# Altium footprint library USB4145-03-0230-C.PcbLib: 1 footprints
Each footprint in its own frame and in the unit in brackets; x right, y up, seen from the top. Pads: shape width x height; smd on the part's side, far side on the other; paste and mask are expansions set on the pad; w line width, h text height; cw(c..) or ccw(c..) is an arc to the next point about the centre after c.
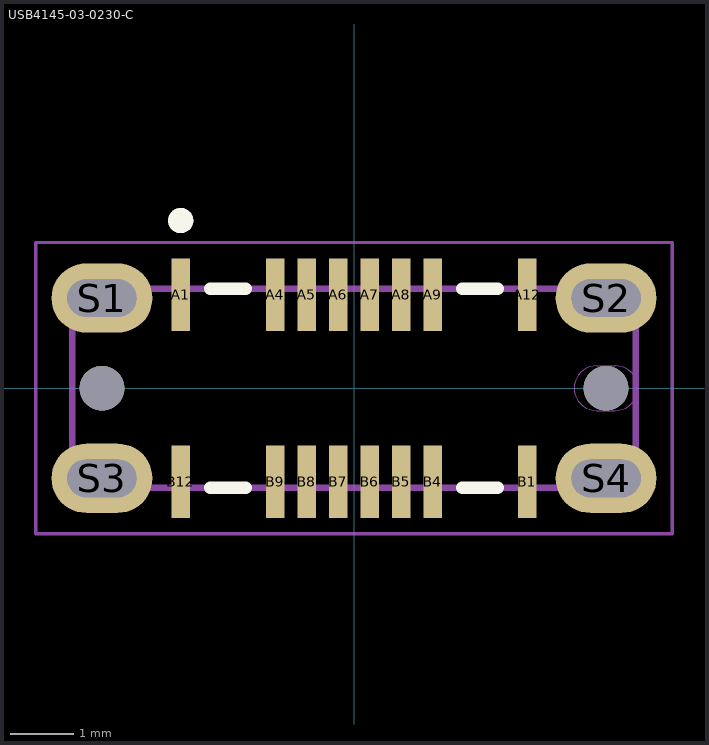
[diagram p0: the footprint, top view; thin cyan lines are the x and y axes]

## USB4145-03-0230-C [mm]
height 7.66
pads (22):
  rect 0.3x1.15 smd: A1(-2.75,1.485) A4(-1.25,1.485) A5(-0.75,1.485) A6(-0.25,1.485) A7(0.25,1.485) A8(0.75,1.485) A9(1.25,1.485) A12(2.75,1.485) B1(2.75,-1.485) B4(1.25,-1.485) B5(0.75,-1.485) B6(0.25,-1.485) B7(-0.25,-1.485) B8(-0.75,-1.485) B9(-1.25,-1.485) B12(-2.75,-1.485)
  oval 1.6x1.1 hole 0.6 slot 1.1 at 0 deg: S1(-4,1.43) S2(4,1.43) S3(-4,-1.43) S4(4,-1.43)
  round 0.71 hole 0.71 unplated: ""(-4,0) ""(4,0)
Top Overlay:
  circle w0.2: c-2.75,2.66 r0.1
  lines w0.2: -2.28,-1.58 -1.72,-1.58 ; -2.28,1.58 -1.72,1.58 ; 1.72,-1.58 2.28,-1.58 ; 1.72,1.58 2.28,1.58
Mechanical 1:
  lines w0: 3.495,0 ccw(c3.85,0) 3.85,-0.355 4.15,-0.355 ccw(c4.15,0) 4.505,0 ccw(c4.15,0) 4.15,0.355 3.85,0.355 ccw(c3.85,0) 3.495,0
Mechanical 13:
  circle w0.2: c-2.75,2.66 r0.1
  lines w0.1: -4.47,-1.58 -4.47,1.58 4.47,1.58 4.47,-1.58 -4.47,-1.58
Mechanical 15:
  lines w0.05: -5.05,-2.31 -5.05,2.31 5.05,2.31 5.05,-2.31 -5.05,-2.31
3D body "USB4145-03-0070-C.stp": height 7.46, standoff -0.7, extent -4.475,-1.856 4.47,1.834